# EAGLE library part MAX15062 (library maxim)
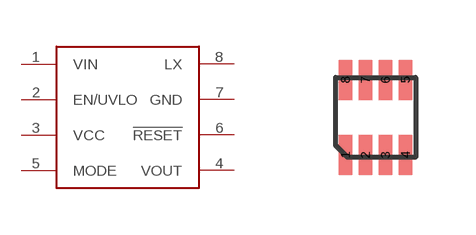
[diagram p3: symbol with the pads of 8TDFN; footprint 8TDFN]

Designator prefix IC

## MAX15062  [8TDFN]
1  VIN  pwr
2  EN/UVLO  in
3  VCC  pas
4  VOUT  pas
5  MODE  pas
6  !RESET  in
7  GND  pas
8  LX

## Footprint 8TDFN (pad centres in mm)
smd 0.33 x 1: 1 -0.75,-0.94; 2 -0.25,-0.94; 3 0.25,-0.94; 4 0.75,-0.94; 5 0.75,0.94; 6 0.25,0.94; 7 -0.25,0.94; 8 -0.75,0.94